# EAGLE library part MURATA_TYPE_ABZ (library lora-lorawan-modules)
Murata TypeABZ LoRaWAN module CMWX1ZZABZ Link: https://wireless.murata.com/eng/products/rf-modules-1/lpwa/type-abz.html
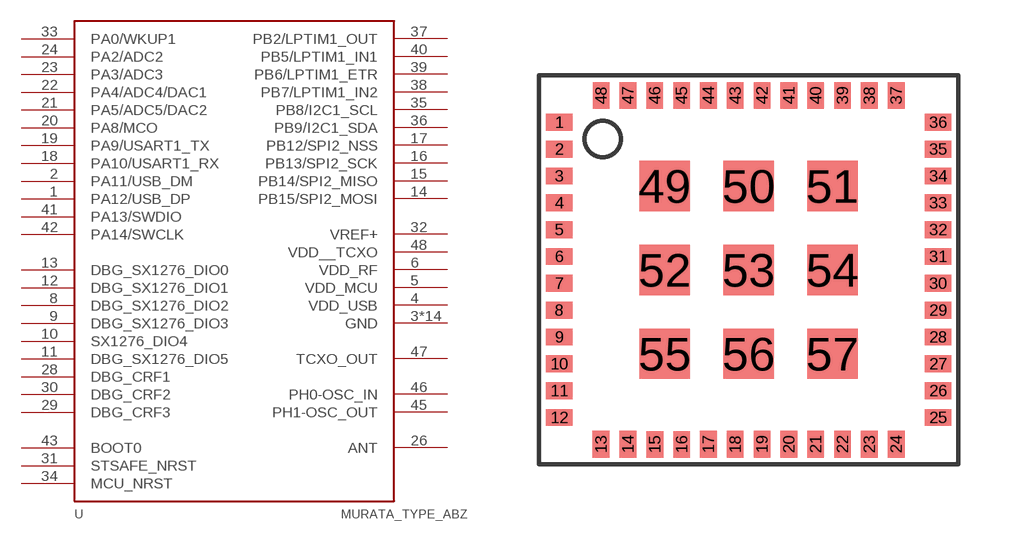
[diagram p5: symbol with the pads of MURATA_TYPE_ABZ; footprint MURATA_TYPE_ABZ]

Designator prefix -

## MURATA_TYPE_ABZ (HEIGHT: 1.76; LENGTH: 12.5; WIDTH: 11.6)  [MURATA_TYPE_ABZ]
1  PA12/USB_DP
2  PA11/USB_DM
3  GND  pwr
4  VDD_USB  pwr
5  VDD_MCU  pwr
6  VDD_RF  pwr
7  GND  pwr
8  DBG_SX1276_DIO2
9  DBG_SX1276_DIO3
10  SX1276_DIO4
11  DBG_SX1276_DIO5
12  DBG_SX1276_DIO1
13  DBG_SX1276_DIO0
14  PB15/SPI2_MOSI
15  PB14/SPI2_MISO
16  PB13/SPI2_SCK
17  PB12/SPI2_NSS
18  PA10/USART1_RX
19  PA9/USART1_TX
20  PA8/MCO
21  PA5/ADC5/DAC2
22  PA4/ADC4/DAC1
23  PA3/ADC3
24  PA2/ADC2
25  GND  pwr
26  ANT
27  GND  pwr
28  DBG_CRF1
29  DBG_CRF3
30  DBG_CRF2
31  STSAFE_NRST  in
32  VREF+  pwr
33  PA0/WKUP1
34  MCU_NRST  in
35  PB8/I2C1_SCL
36  PB9/I2C1_SDA
37  PB2/LPTIM1_OUT
38  PB7/LPTIM1_IN2
39  PB6/LPTIM1_ETR
40  PB5/LPTIM1_IN1
41  PA13/SWDIO
42  PA14/SWCLK
43  BOOT0  in
44  GND  pwr
45  PH1-OSC_OUT
46  PH0-OSC_IN
47  TCXO_OUT  out
48  VDD__TCXO  pwr
49  GND  pwr
50  GND  pwr
51  GND  pwr
52  GND  pwr
53  GND  pwr
54  GND  pwr
55  GND  pwr
56  GND  pwr
57  GND  pwr

## Footprint MURATA_TYPE_ABZ (pad centres in mm)
smd 0.8 x 0.5: 1 0.6,10.2; 2 0.6,9.4; 3 0.6,8.6; 4 0.6,7.8; 5 0.6,7; 6 0.6,6.2; 7 0.6,5.4; 8 0.6,4.6; 9 0.6,3.8; 10 0.6,3; 11 0.6,2.2; 12 0.6,1.4; 25 11.9,1.4; 26 11.9,2.2; 27 11.9,3; 28 11.9,3.8; 29 11.9,4.6; 30 11.9,5.4; 31 11.9,6.2; 32 11.9,7; 33 11.9,7.8; 34 11.9,8.6; 35 11.9,9.4; 36 11.9,10.2
smd 0.5 x 0.8: 13 1.849,0.599; 14 2.652,0.599; 15 3.452,0.597; 16 4.255,0.597; 17 5.05,0.6; 18 5.85,0.6; 19 6.65,0.6; 20 7.45,0.6; 21 8.25,0.6; 22 9.05,0.6; 23 9.85,0.6; 24 10.65,0.6; 37 10.65,11; 38 9.85,11; 39 9.05,11; 40 8.25,11; 41 7.45,11; 42 6.65,11; 43 5.85,11; 44 5.05,11; 45 4.25,11; 46 3.45,11; 47 2.65,11; 48 1.85,11
smd 1.5 x 1.5: 49 3.75,8.3; 50 6.25,8.3; 51 8.75,8.3; 52 3.75,5.8; 53 6.25,5.8; 54 8.75,5.8; 55 3.75,3.3; 56 6.25,3.3; 57 8.75,3.3